# Altium footprint library Infrared.PcbLib: 1 footprints
Each footprint in its own frame and in the unit in brackets; x right, y up, seen from the top. Pads: shape width x height; smd on the part's side, far side on the other; paste and mask are expansions set on the pad; w line width, h text height; cw(c..) or ccw(c..) is an arc to the next point about the centre after c.
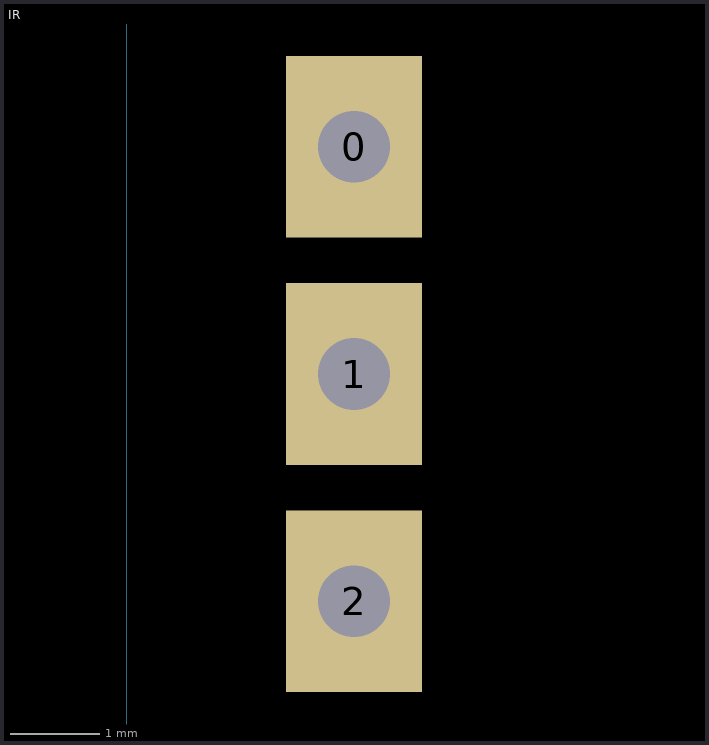
[diagram p0: the footprint, top view; thin cyan lines are the x and y axes]

## IR [mil] "IR Reciever"
pads (3):
  rect 60x80 hole 31.5: 0(100,300) 1(100,200) 2(100,100)
3D body: height 240, standoff 80, extent 280.08,120.02 440,279.98
3D body: height 160, standoff 0, extent 200,80 460,320
3D body: height 62.99, standoff 47.24, extent 90,90 220,310
3D body: height 47.24, standoff 0, extent 90,90 100,110
3D body: height 47.24, standoff 0, extent 90,190 100,210
3D body: height 47.24, standoff 0, extent 90,290 100,310